# EAGLE library part _CON_USB_MICRO_B_H_(10118192-0001LF) (library SamacSys_Parts)
USB Connectors 5P MICRO USB TYPE B RECEPTACLE Source: Datasheet <https://www.mouser.tw/datasheet/2/18/10118192-1361887.pdf>
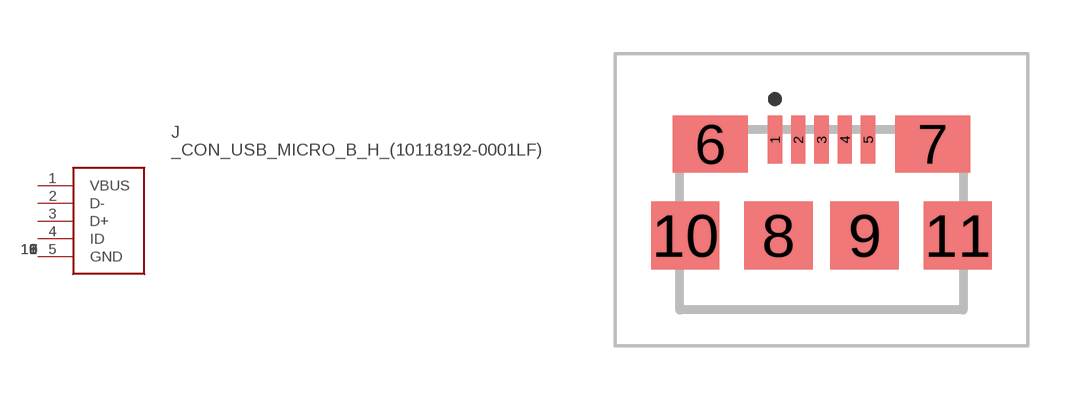
[diagram p16: symbol with the pads of 101181920001LF; footprint 101181920001LF]

Designator prefix J

## _CON_USB_MICRO_B_H_(10118192-0001LF) (DESCRIPTION: USB Connectors 5P MICRO USB TYPE B RECEPTACLE; HEIGHT: 2.8mm; MANUFACTURER_NAME: Amphenol; MANUFACTURER_PART_NUMBER: 10118192-0001LF; MOUSER_PART_NUMBER: 649-10118192-0001LF; MOUSER_PRICE-STOCK: https://www.mouser.co.uk/ProductDetail/Amphenol-FCI/10118192-0001LF/?qs=Ywefl8B65e5bHFoQtIudZg%3D%3D)  [101181920001LF]
1  VBUS
2  D-
3  D+
4  ID
5  GND
6  GND_6
7  GND_5
8  GND_4
9  GND_3
10  GND_2
11  GND_1

## Footprint 101181920001LF (pad centres in mm)
10118192-0001LF
smd 0.4 x 1.35: 1 -1.3,1.682; 2 -0.65,1.682; 3 0,1.682; 4 0.65,1.682; 5 1.3,1.682
smd 2.1 x 1.6: 6 -3.1,1.557; 7 3.1,1.557
smd 1.9 x 1.9: 8 -1.2,-0.993; 9 1.2,-0.993; 10 -3.8,-0.993; 11 3.8,-0.993